# Altium integrated library ON Semi Darlington Transistors.IntLib: 300 symbols (part 1 of 7)
Pins are listed as number, name and electrical type; pins without a type are passive.

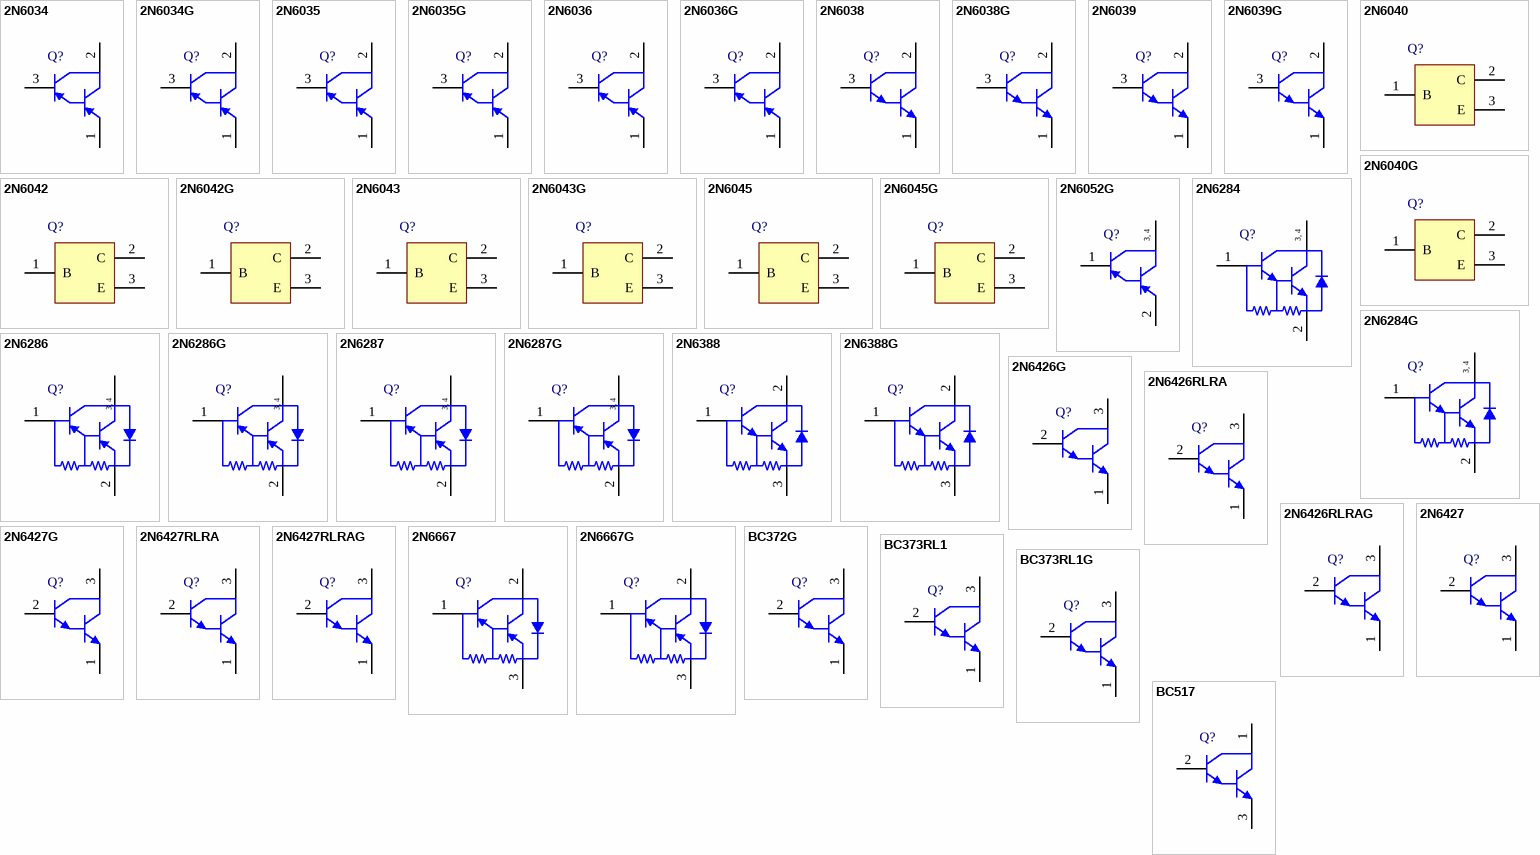
[diagram p0: symbols 2N6034 to BC517]

## 2N6034
designator Q?
Plastic Darlington Complementary Silicon Power Transistor, 3-Pin TO-225, Bulk Box; Manufacturer: On Semiconductor; PartNumber: 2N6034; hFE Max (k): 15; IC Continuous (A): 4; Polarity: PNP; DatasheetVersion: Rev. 15; PackageVersion: Rev. AC, 12/2013; PackageReference: TO-225-3-77-09; PackageDescription: 3-Pin Flange Mount, Vertical Straight Lead, Body 7.6 x 2.7 mm, Pitch 2.29 mm; Supplier 1: Digi-Key; Supplier Part Number 1: 2N6034OS-ND; Packing: Bulk Box; RoHS: FALSE; Mounting Technology: Through Hole; ComponentLink1Description: Manufacturer URL; ComponentLink1URL: http://www.onsemi.com/; ComponentLink2Description: Datasheet; ComponentLink2URL: http://www.onsemi.com/pub_link/Collateral/2N6035-D.PDF; ComponentLink3Description: Package Specification; ComponentLink3URL: http://www.onsemi.com/pub_link/Collateral/77-09.PDF
footprint ONSC-TO-225-3-77-09 (FM, 3-Leads, Body 7.8x3mm, Pitch 2.29mm)
pins: 1 E, 2 C, 3 B

## 2N6034G
designator Q?
Plastic Darlington Complementary Silicon Power Transistor, 3-Pin TO-225, Pb-Free, Bulk Box; Manufacturer: On Semiconductor; PartNumber: 2N6034G; hFE Max (k): 15; IC Continuous (A): 4; Polarity: PNP; DatasheetVersion: Rev. 15; PackageVersion: Rev. AC, 12/2013; PackageReference: TO-225-3-77-09; PackageDescription: 3-Pin Flange Mount, Vertical Straight Lead, Body 7.6 x 2.7 mm, Pitch 2.29 mm; Supplier 1: Digi-Key; Supplier Part Number 1: 2N6034GOS-ND; Supplier 2: Farnell; Supplier Part Number 2: 1143544; Supplier 3: Newark; Supplier Part Number 3: 42K3159; Supplier 4: Mouser; Supplier Part Number 4: 863-2N6034G; Packing: Bulk Box; RoHS: TRUE; Mounting Technology: Through Hole; ComponentLink1Description: Manufacturer URL; ComponentLink1URL: http://www.onsemi.com/; ComponentLink2Description: Datasheet; ComponentLink2URL: http://www.onsemi.com/pub_link/Collateral/2N6035-D.PDF; ComponentLink3Description: Package Specification; ComponentLink3URL: http://www.onsemi.com/pub_link/Collateral/77-09.PDF
footprint ONSC-TO-225-3-77-09 (FM, 3-Leads, Body 7.8x3mm, Pitch 2.29mm)
pins: 1 E, 2 C, 3 B

## 2N6035
designator Q?
Plastic Darlington Complementary Silicon Power Transistor, 3-Pin TO-225, Bulk Box; Manufacturer: On Semiconductor; PartNumber: 2N6035; Note: 0; hFE Max (k): 15; IC Continuous (A): 4; Polarity: PNP; DatasheetVersion: Rev. 15; PackageVersion: Rev. AC, 12/2013; PackageReference: TO-225-3-77-09; PackageDescription: 3-Pin Flange Mount, Vertical Straight Lead, Body 7.6 x 2.7 mm, Pitch 2.29 mm; Packing: Bulk Box; RoHS: FALSE; Mounting Technology: Through Hole; ComponentLink1Description: Manufacturer URL; ComponentLink1URL: http://www.onsemi.com/; ComponentLink2Description: Datasheet; ComponentLink2URL: http://www.onsemi.com/pub_link/Collateral/2N6035-D.PDF; ComponentLink3Description: Package Specification; ComponentLink3URL: http://www.onsemi.com/pub_link/Collateral/77-09.PDF
footprint ONSC-TO-225-3-77-09 (FM, 3-Leads, Body 7.8x3mm, Pitch 2.29mm)
pins: 1 E, 2 C, 3 B

## 2N6035G
designator Q?
Plastic Darlington Complementary Silicon Power Transistor, 3-Pin TO-225, Pb-Free, Bulk Box; Manufacturer: On Semiconductor; PartNumber: 2N6035G; hFE Max (k): 15; IC Continuous (A): 4; Polarity: PNP; DatasheetVersion: Rev. 15; PackageVersion: Rev. AC, 12/2013; PackageReference: TO-225-3-77-09; PackageDescription: 3-Pin Flange Mount, Vertical Straight Lead, Body 7.6 x 2.7 mm, Pitch 2.29 mm; Supplier 1: Digi-Key; Supplier Part Number 1: 2N6035G-ND; Supplier 2: Newark; Supplier Part Number 2: 42K3160; Supplier 3: Mouser; Supplier Part Number 3: 863-2N6035G; Packing: Bulk Box; RoHS: TRUE; Mounting Technology: Through Hole; ComponentLink1Description: Manufacturer URL; ComponentLink1URL: http://www.onsemi.com/; ComponentLink2Description: Datasheet; ComponentLink2URL: http://www.onsemi.com/pub_link/Collateral/2N6035-D.PDF; ComponentLink3Description: Package Specification; ComponentLink3URL: http://www.onsemi.com/pub_link/Collateral/77-09.PDF
footprint ONSC-TO-225-3-77-09 (FM, 3-Leads, Body 7.8x3mm, Pitch 2.29mm)
pins: 1 E, 2 C, 3 B

## 2N6036
designator Q?
Plastic Darlington Complementary Silicon Power Transistor, 3-Pin TO-225, Bulk Box; Manufacturer: On Semiconductor; PartNumber: 2N6036; hFE Max (k): 15; IC Continuous (A): 4; Polarity: PNP; DatasheetVersion: Rev. 15; PackageVersion: Rev. AC, 12/2013; PackageReference: TO-225-3-77-09; PackageDescription: 3-Pin Flange Mount, Vertical Straight Lead, Body 7.6 x 2.7 mm, Pitch 2.29 mm; Supplier 1: Digi-Key; Supplier Part Number 1: 2N6036OS-ND; Packing: Bulk Box; RoHS: FALSE; Mounting Technology: Through Hole; ComponentLink1Description: Manufacturer URL; ComponentLink1URL: http://www.onsemi.com/; ComponentLink2Description: Datasheet; ComponentLink2URL: http://www.onsemi.com/pub_link/Collateral/2N6035-D.PDF; ComponentLink3Description: Package Specification; ComponentLink3URL: http://www.onsemi.com/pub_link/Collateral/77-09.PDF
footprint ONSC-TO-225-3-77-09 (FM, 3-Leads, Body 7.8x3mm, Pitch 2.29mm)
pins: 1 E, 2 C, 3 B

## 2N6036G
designator Q?
Plastic Darlington Complementary Silicon Power Transistor, 3-Pin TO-225, Pb-Free, Bulk Box; Manufacturer: On Semiconductor; PartNumber: 2N6036G; hFE Max (k): 15; IC Continuous (A): 4; Polarity: PNP; DatasheetVersion: Rev. 15; PackageVersion: Rev. AC, 12/2013; PackageReference: TO-225-3-77-09; PackageDescription: 3-Pin Flange Mount, Vertical Straight Lead, Body 7.6 x 2.7 mm, Pitch 2.29 mm; Supplier 1: Digi-Key; Supplier Part Number 1: 2N6036GOS-ND; Supplier 2: Newark; Supplier Part Number 2: 42K3161; Supplier 3: Mouser; Supplier Part Number 3: 863-2N6036G; Packing: Bulk Box; RoHS: TRUE; Mounting Technology: Through Hole; ComponentLink1Description: Manufacturer URL; ComponentLink1URL: http://www.onsemi.com/; ComponentLink2Description: Datasheet; ComponentLink2URL: http://www.onsemi.com/pub_link/Collateral/2N6035-D.PDF; ComponentLink3Description: Package Specification; ComponentLink3URL: http://www.onsemi.com/pub_link/Collateral/77-09.PDF
footprint ONSC-TO-225-3-77-09 (FM, 3-Leads, Body 7.8x3mm, Pitch 2.29mm)
pins: 1 E, 2 C, 3 B

## 2N6038
designator Q?
Plastic Darlington Complementary Silicon Power Transistor, 3-Pin TO-225, Bulk Box; Manufacturer: On Semiconductor; PartNumber: 2N6038; hFE Max (k): 15; IC Continuous (A): 4; Polarity: NPN; DatasheetVersion: Rev. 15; PackageVersion: Rev. AC, 12/2013; PackageReference: TO-225-3-77-09; PackageDescription: 3-Pin Flange Mount, Vertical Straight Lead, Body 7.6 x 2.7 mm, Pitch 2.29 mm; Supplier 1: Digi-Key; Supplier Part Number 1: 2N6038OS-ND; Packing: Bulk Box; RoHS: FALSE; Mounting Technology: Through Hole; ComponentLink1Description: Manufacturer URL; ComponentLink1URL: http://www.onsemi.com/; ComponentLink2Description: Datasheet; ComponentLink2URL: http://www.onsemi.com/pub_link/Collateral/2N6035-D.PDF; ComponentLink3Description: Package Specification; ComponentLink3URL: http://www.onsemi.com/pub_link/Collateral/77-09.PDF
footprint ONSC-TO-225-3-77-09 (FM, 3-Leads, Body 7.8x3mm, Pitch 2.29mm)
pins: 1 E, 2 C, 3 B

## 2N6038G
designator Q?
Plastic Darlington Complementary Silicon Power Transistor, 3-Pin TO-225, Pb-Free, Bulk Box; Manufacturer: On Semiconductor; PartNumber: 2N6038G; hFE Max (k): 15; IC Continuous (A): 4; Polarity: NPN; DatasheetVersion: Rev. 15; PackageVersion: Rev. AC, 12/2013; PackageReference: TO-225-3-77-09; PackageDescription: 3-Pin Flange Mount, Vertical Straight Lead, Body 7.6 x 2.7 mm, Pitch 2.29 mm; Supplier 1: Digi-Key; Supplier Part Number 1: 2N6038GOS-ND; Supplier 2: Newark; Supplier Part Number 2: 42K3162; Supplier 3: Mouser; Supplier Part Number 3: 863-2N6038G; Packing: Bulk Box; RoHS: TRUE; Mounting Technology: Through Hole; ComponentLink1Description: Manufacturer URL; ComponentLink1URL: http://www.onsemi.com/; ComponentLink2Description: Datasheet; ComponentLink2URL: http://www.onsemi.com/pub_link/Collateral/2N6035-D.PDF; ComponentLink3Description: Package Specification; ComponentLink3URL: http://www.onsemi.com/pub_link/Collateral/77-09.PDF
footprint ONSC-TO-225-3-77-09 (FM, 3-Leads, Body 7.8x3mm, Pitch 2.29mm)
pins: 1 E, 2 C, 3 B

## 2N6039
designator Q?
Plastic Darlington Complementary Silicon Power Transistor, 3-Pin TO-225, Bulk Box; Manufacturer: On Semiconductor; PartNumber: 2N6039; Note: 0; hFE Max (k): 15; IC Continuous (A): 4; Polarity: NPN; DatasheetVersion: Rev. 15; PackageVersion: Rev. AC, 12/2013; PackageReference: TO-225-3-77-09; PackageDescription: 3-Pin Flange Mount, Vertical Straight Lead, Body 7.6 x 2.7 mm, Pitch 2.29 mm; Packing: Bulk Box; RoHS: FALSE; Mounting Technology: Through Hole; ComponentLink1Description: Manufacturer URL; ComponentLink1URL: http://www.onsemi.com/; ComponentLink2Description: Datasheet; ComponentLink2URL: http://www.onsemi.com/pub_link/Collateral/2N6035-D.PDF; ComponentLink3Description: Package Specification; ComponentLink3URL: http://www.onsemi.com/pub_link/Collateral/77-09.PDF
footprint ONSC-TO-225-3-77-09 (FM, 3-Leads, Body 7.8x3mm, Pitch 2.29mm)
pins: 1 E, 2 C, 3 B

## 2N6039G
designator Q?
Plastic Darlington Complementary Silicon Power Transistor, 3-Pin TO-225, Pb-Free, Bulk Box; Manufacturer: On Semiconductor; PartNumber: 2N6039G; hFE Max (k): 15; IC Continuous (A): 4; Polarity: NPN; DatasheetVersion: Rev. 15; PackageVersion: Rev. AC, 12/2013; PackageReference: TO-225-3-77-09; PackageDescription: 3-Pin Flange Mount, Vertical Straight Lead, Body 7.6 x 2.7 mm, Pitch 2.29 mm; Supplier 1: Digi-Key; Supplier Part Number 1: 2N6039GOS-ND; Supplier 2: Farnell; Supplier Part Number 2: 1095311; Supplier 3: Newark; Supplier Part Number 3: 42K3163; Supplier 4: Mouser; Supplier Part Number 4: 863-2N6039G; Packing: Bulk Box; RoHS: TRUE; Mounting Technology: Through Hole; ComponentLink1Description: Manufacturer URL; ComponentLink1URL: http://www.onsemi.com/; ComponentLink2Description: Datasheet; ComponentLink2URL: http://www.onsemi.com/pub_link/Collateral/2N6035-D.PDF; ComponentLink3Description: Package Specification; ComponentLink3URL: http://www.onsemi.com/pub_link/Collateral/77-09.PDF
footprint ONSC-TO-225-3-77-09 (FM, 3-Leads, Body 7.8x3mm, Pitch 2.29mm)
pins: 1 E, 2 C, 3 B

## 2N6040
designator Q?
Plastic Medium-Power Complementary Silicon Transistor, 3-Pin TO-220, Tube; Manufacturer: On Semiconductor; PartNumber: 2N6040; hFE Max (k): 20; IC Continuous (A): 8; Polarity: PNP; DatasheetVersion: Rev. 9; PackageVersion: Rev. AG, 09/2011; PackageReference: TO-220-3-221A-09; PackageDescription: 3-Pin Flange Mount, Vertical Straight Lead, Body 9.97 x 4.445 mm, Pitch 2.54 mm; Supplier 1: Digi-Key; Supplier Part Number 1: 2N6040OS-ND; Packing: Tube; RoHS: FALSE; Mounting Technology: Through Hole; ComponentLink1Description: Manufacturer URL; ComponentLink1URL: http://www.onsemi.com/; ComponentLink2Description: Datasheet; ComponentLink2URL: http://www.onsemi.com/pub_link/Collateral/2N6040-D.PDF; ComponentLink3Description: Package Specification; ComponentLink3URL: http://www.onsemi.com/pub_link/Collateral/221A-09.PDF
footprint ONSC-TO-220-3-221A-09 (FM, 3-Leads, Body 10.3x4.85mm, Pitch 2.54mm)
pins: 1 B, 2 C, 3 E

## 2N6040G
designator Q?
Plastic Medium-Power Complementary Silicon Transistor, 3-Pin TO-220, Pb-Free, Tube; Manufacturer: On Semiconductor; PartNumber: 2N6040G; hFE Max (k): 20; IC Continuous (A): 8; Polarity: PNP; DatasheetVersion: Rev. 9; PackageVersion: Rev. AG, 09/2011; PackageReference: TO-220-3-221A-09; PackageDescription: 3-Pin Flange Mount, Vertical Straight Lead, Body 9.97 x 4.445 mm, Pitch 2.54 mm; Supplier 1: Digi-Key; Supplier Part Number 1: 2N6040GOS-ND; Supplier 2: Farnell; Supplier Part Number 2: 1126360; Supplier 3: Newark; Supplier Part Number 3: 42K3164; Supplier 4: Mouser; Supplier Part Number 4: 863-2N6040G; Packing: Tube; RoHS: TRUE; Mounting Technology: Through Hole; ComponentLink1Description: Manufacturer URL; ComponentLink1URL: http://www.onsemi.com/; ComponentLink2Description: Datasheet; ComponentLink2URL: http://www.onsemi.com/pub_link/Collateral/2N6040-D.PDF; ComponentLink3Description: Package Specification; ComponentLink3URL: http://www.onsemi.com/pub_link/Collateral/221A-09.PDF
footprint ONSC-TO-220-3-221A-09 (FM, 3-Leads, Body 10.3x4.85mm, Pitch 2.54mm)
pins: 1 B, 2 C, 3 E

## 2N6042
designator Q?
Plastic Medium-Power Complementary Silicon Transistor, 3-Pin TO-220, Tube; Manufacturer: On Semiconductor; PartNumber: 2N6042; hFE Max (k): 20; IC Continuous (A): 8; Polarity: PNP; DatasheetVersion: Rev. 9; PackageVersion: Rev. AG, 09/2011; PackageReference: TO-220-3-221A-09; PackageDescription: 3-Pin Flange Mount, Vertical Straight Lead, Body 9.97 x 4.445 mm, Pitch 2.54 mm; Supplier 1: Digi-Key; Supplier Part Number 1: 2N6042OS-ND; Packing: Tube; RoHS: FALSE; Mounting Technology: Through Hole; ComponentLink1Description: Manufacturer URL; ComponentLink1URL: http://www.onsemi.com/; ComponentLink2Description: Datasheet; ComponentLink2URL: http://www.onsemi.com/pub_link/Collateral/2N6040-D.PDF; ComponentLink3Description: Package Specification; ComponentLink3URL: http://www.onsemi.com/pub_link/Collateral/221A-09.PDF
footprint ONSC-TO-220-3-221A-09 (FM, 3-Leads, Body 10.3x4.85mm, Pitch 2.54mm)
pins: 1 B, 2 C, 3 E

## 2N6042G
designator Q?
Plastic Medium-Power Complementary Silicon Transistor, 3-Pin TO-220, Pb-Free, Tube; Manufacturer: On Semiconductor; PartNumber: 2N6042G; hFE Max (k): 20; IC Continuous (A): 8; Polarity: PNP; DatasheetVersion: Rev. 9; PackageVersion: Rev. AG, 09/2011; PackageReference: TO-220-3-221A-09; PackageDescription: 3-Pin Flange Mount, Vertical Straight Lead, Body 9.97 x 4.445 mm, Pitch 2.54 mm; Supplier 1: Digi-Key; Supplier Part Number 1: 2N6042GOS-ND; Supplier 2: Farnell; Supplier Part Number 2: 1231734; Supplier 3: Newark; Supplier Part Number 3: 42K3165; Supplier 4: Mouser; Supplier Part Number 4: 863-2N6042G; Packing: Tube; RoHS: TRUE; Mounting Technology: Through Hole; ComponentLink1Description: Manufacturer URL; ComponentLink1URL: http://www.onsemi.com/; ComponentLink2Description: Datasheet; ComponentLink2URL: http://www.onsemi.com/pub_link/Collateral/2N6040-D.PDF; ComponentLink3Description: Package Specification; ComponentLink3URL: http://www.onsemi.com/pub_link/Collateral/221A-09.PDF
footprint ONSC-TO-220-3-221A-09 (FM, 3-Leads, Body 10.3x4.85mm, Pitch 2.54mm)
pins: 1 B, 2 C, 3 E

## 2N6043
designator Q?
Plastic Medium-Power Complementary Silicon Transistor, 3-Pin TO-220, Tube; Manufacturer: On Semiconductor; PartNumber: 2N6043; hFE Max (k): 20; IC Continuous (A): 8; Polarity: NPN; DatasheetVersion: Rev. 9; PackageVersion: Rev. AG, 09/2011; PackageReference: TO-220-3-221A-09; PackageDescription: 3-Pin Flange Mount, Vertical Straight Lead, Body 9.97 x 4.445 mm, Pitch 2.54 mm; Supplier 1: Digi-Key; Supplier Part Number 1: 2N6043OS-ND; Packing: Tube; RoHS: FALSE; Mounting Technology: Through Hole; ComponentLink1Description: Manufacturer URL; ComponentLink1URL: http://www.onsemi.com/; ComponentLink2Description: Datasheet; ComponentLink2URL: http://www.onsemi.com/pub_link/Collateral/2N6040-D.PDF; ComponentLink3Description: Package Specification; ComponentLink3URL: http://www.onsemi.com/pub_link/Collateral/221A-09.PDF
footprint ONSC-TO-220-3-221A-09 (FM, 3-Leads, Body 10.3x4.85mm, Pitch 2.54mm)
pins: 1 B, 2 C, 3 E

## 2N6043G
designator Q?
Plastic Medium-Power Complementary Silicon Transistor, 3-Pin TO-220, Pb-Free, Tube; Manufacturer: On Semiconductor; PartNumber: 2N6043G; hFE Max (k): 20; IC Continuous (A): 8; Polarity: NPN; DatasheetVersion: Rev. 9; PackageVersion: Rev. AG, 09/2011; PackageReference: TO-220-3-221A-09; PackageDescription: 3-Pin Flange Mount, Vertical Straight Lead, Body 9.97 x 4.445 mm, Pitch 2.54 mm; Supplier 1: Digi-Key; Supplier Part Number 1: 2N6043GOS-ND; Supplier 2: Farnell; Supplier Part Number 2: 1126361; Supplier 3: Newark; Supplier Part Number 3: 42K3166; Supplier 4: Mouser; Supplier Part Number 4: 863-2N6043G; Packing: Tube; RoHS: TRUE; Mounting Technology: Through Hole; ComponentLink1Description: Manufacturer URL; ComponentLink1URL: http://www.onsemi.com/; ComponentLink2Description: Datasheet; ComponentLink2URL: http://www.onsemi.com/pub_link/Collateral/2N6040-D.PDF; ComponentLink3Description: Package Specification; ComponentLink3URL: http://www.onsemi.com/pub_link/Collateral/221A-09.PDF
footprint ONSC-TO-220-3-221A-09 (FM, 3-Leads, Body 10.3x4.85mm, Pitch 2.54mm)
pins: 1 B, 2 C, 3 E

## 2N6045
designator Q?
Plastic Medium-Power Complementary Silicon Transistor, 3-Pin TO-220, Tube; Manufacturer: On Semiconductor; PartNumber: 2N6045; hFE Max (k): 20; IC Continuous (A): 8; Polarity: NPN; DatasheetVersion: Rev. 9; PackageVersion: Rev. AG, 09/2011; PackageReference: TO-220-3-221A-09; PackageDescription: 3-Pin Flange Mount, Vertical Straight Lead, Body 9.97 x 4.445 mm, Pitch 2.54 mm; Supplier 1: Digi-Key; Supplier Part Number 1: 2N6045OS-ND; Packing: Tube; RoHS: FALSE; Mounting Technology: Through Hole; ComponentLink1Description: Manufacturer URL; ComponentLink1URL: http://www.onsemi.com/; ComponentLink2Description: Datasheet; ComponentLink2URL: http://www.onsemi.com/pub_link/Collateral/2N6040-D.PDF; ComponentLink3Description: Package Specification; ComponentLink3URL: http://www.onsemi.com/pub_link/Collateral/221A-09.PDF
footprint ONSC-TO-220-3-221A-09 (FM, 3-Leads, Body 10.3x4.85mm, Pitch 2.54mm)
pins: 1 B, 2 C, 3 E

## 2N6045G
designator Q?
Plastic Medium-Power Complementary Silicon Transistor, 3-Pin TO-220, Pb-Free, Tube; Manufacturer: On Semiconductor; PartNumber: 2N6045G; hFE Max (k): 20; IC Continuous (A): 8; Polarity: NPN; DatasheetVersion: Rev. 9; PackageVersion: Rev. AG, 09/2011; PackageReference: TO-220-3-221A-09; PackageDescription: 3-Pin Flange Mount, Vertical Straight Lead, Body 9.97 x 4.445 mm, Pitch 2.54 mm; Supplier 1: Digi-Key; Supplier Part Number 1: 2N6045GOS-ND; Supplier 2: Farnell; Supplier Part Number 2: 1126034; Supplier 3: Newark; Supplier Part Number 3: 26K5308; Supplier 4: Mouser; Supplier Part Number 4: 863-2N6045G; Packing: Tube; RoHS: TRUE; Mounting Technology: Through Hole; ComponentLink1Description: Manufacturer URL; ComponentLink1URL: http://www.onsemi.com/; ComponentLink2Description: Datasheet; ComponentLink2URL: http://www.onsemi.com/pub_link/Collateral/2N6040-D.PDF; ComponentLink3Description: Package Specification; ComponentLink3URL: http://www.onsemi.com/pub_link/Collateral/221A-09.PDF
footprint ONSC-TO-220-3-221A-09 (FM, 3-Leads, Body 10.3x4.85mm, Pitch 2.54mm)
pins: 1 B, 2 C, 3 E

## 2N6052G
designator Q?
Darlington Complementary Silicon Power Transistor, 3-Pin TO-204, Pb-Free, Tray; Manufacturer: On Semiconductor; PartNumber: 2N6052G; hFE Max (k): 18; IC Continuous (A): 12; Polarity: PNP; DatasheetVersion: Rev. 5; PackageVersion: Rev. Z, 05/1988; PackageReference: TO-204-3-1-07; PackageDescription: 2-Pin Transistor Outline, Body 39.37 x 26.67 mm, Pitch 10.92 mm; Supplier 1: Digi-Key; Supplier Part Number 1: 2N6052GOS-ND; Supplier 2: Farnell; Supplier Part Number 2: 1126035; Supplier 3: Newark; Supplier Part Number 3: 26K5309; Supplier 4: Mouser; Supplier Part Number 4: 863-2N6052G; Packing: Tray; RoHS: TRUE; Mounting Technology: Through Hole; ComponentLink1Description: Manufacturer URL; ComponentLink1URL: http://www.onsemi.com/; ComponentLink2Description: Datasheet; ComponentLink2URL: http://www.onsemi.com/pub_link/Collateral/2N6052-D.PDF; ComponentLink3Description: Package Specification; ComponentLink3URL: http://www.onsemi.com/pub_link/Collateral/1-07.PDF
footprint ONSC-TO-204-3-1-07 (TO-204, Pin Spacing 10.92mm, Lead Dia. 1.09 mm (max))
pins: 1 B, 2 E, 3 C, 4 C
text: 3, 4

## 2N6284
designator Q?
Darlington Complementary Silicon Power Transistor, 3-Pin TO-204, Tray; Manufacturer: On Semiconductor; PartNumber: 2N6284; Note: 0; hFE Max (k): 18; IC Continuous (A): 20; Polarity: NPN; DatasheetVersion: Rev. 4; PackageVersion: Rev. Z, 05/1988; PackageReference: TO-204-3-1-07; PackageDescription: 2-Pin Transistor Outline, Body 39.37 x 26.67 mm, Pitch 10.92 mm; Packing: Tray; RoHS: FALSE; Mounting Technology: Through Hole; ComponentLink1Description: Manufacturer URL; ComponentLink1URL: http://www.onsemi.com/; ComponentLink2Description: Datasheet; ComponentLink2URL: http://www.onsemi.cn/pub_link/Collateral/2N6284-D.PDF; ComponentLink3Description: Package Specification; ComponentLink3URL: http://www.onsemi.com/pub_link/Collateral/1-07.PDF
footprint ONSC-TO-204-3-1-07 (TO-204, Pin Spacing 10.92mm, Lead Dia. 1.09 mm (max))
pins: 1 B, 2 E, 3 C, 4 C
text: 3, 4

## 2N6284G
designator Q?
Darlington Complementary Silicon Power Transistor, 3-Pin TO-204, Pb-Free, Tray; Manufacturer: On Semiconductor; PartNumber: 2N6284G; hFE Max (k): 18; IC Continuous (A): 20; Polarity: NPN; DatasheetVersion: Rev. 4; PackageVersion: Rev. Z, 05/1988; PackageReference: TO-204-3-1-07; PackageDescription: 2-Pin Transistor Outline, Body 39.37 x 26.67 mm, Pitch 10.92 mm; Supplier 1: Digi-Key; Supplier Part Number 1: 2N6284GOS-ND; Supplier 2: Farnell; Supplier Part Number 2: 1126041; Supplier 3: Newark; Supplier Part Number 3: 26K5315; Supplier 4: Mouser; Supplier Part Number 4: 863-2N6284G; Packing: Tray; RoHS: TRUE; Mounting Technology: Through Hole; ComponentLink1Description: Manufacturer URL; ComponentLink1URL: http://www.onsemi.com/; ComponentLink2Description: Datasheet; ComponentLink2URL: http://www.onsemi.cn/pub_link/Collateral/2N6284-D.PDF; ComponentLink3Description: Package Specification; ComponentLink3URL: http://www.onsemi.com/pub_link/Collateral/1-07.PDF
footprint ONSC-TO-204-3-1-07 (TO-204, Pin Spacing 10.92mm, Lead Dia. 1.09 mm (max))
pins: 1 B, 2 E, 3 C, 4 C
text: 3, 4

## 2N6286
designator Q?
Darlington Complementary Silicon Power Transistor, 3-Pin TO-204, Tray; Manufacturer: On Semiconductor; PartNumber: 2N6286; Note: 0; hFE Max (k): 18; IC Continuous (A): 20; Polarity: PNP; DatasheetVersion: Rev. 4; PackageVersion: Rev. Z, 05/1988; PackageReference: TO-204-3-1-07; PackageDescription: 2-Pin Transistor Outline, Body 39.37 x 26.67 mm, Pitch 10.92 mm; Packing: Tray; RoHS: FALSE; Mounting Technology: Through Hole; ComponentLink1Description: Manufacturer URL; ComponentLink1URL: http://www.onsemi.com/; ComponentLink2Description: Datasheet; ComponentLink2URL: http://www.onsemi.cn/pub_link/Collateral/2N6284-D.PDF; ComponentLink3Description: Package Specification; ComponentLink3URL: http://www.onsemi.com/pub_link/Collateral/1-07.PDF
footprint ONSC-TO-204-3-1-07 (TO-204, Pin Spacing 10.92mm, Lead Dia. 1.09 mm (max))
pins: 1 B, 2 E, 3 C, 4 C
text: 3, 4

## 2N6286G
designator Q?
Darlington Complementary Silicon Power Transistor, 3-Pin TO-204, Pb-Free, Tray; Manufacturer: On Semiconductor; PartNumber: 2N6286G; hFE Max (k): 18; IC Continuous (A): 20; Polarity: PNP; DatasheetVersion: Rev. 4; PackageVersion: Rev. Z, 05/1988; PackageReference: TO-204-3-1-07; PackageDescription: 2-Pin Transistor Outline, Body 39.37 x 26.67 mm, Pitch 10.92 mm; Supplier 1: Digi-Key; Supplier Part Number 1: 2N6286GOS-ND; Supplier 2: Farnell; Supplier Part Number 2: 1126364; Supplier 3: Newark; Supplier Part Number 3: 42K3170; Supplier 4: Mouser; Supplier Part Number 4: 863-2N6286G; Packing: Tray; RoHS: TRUE; Mounting Technology: Through Hole; ComponentLink1Description: Manufacturer URL; ComponentLink1URL: http://www.onsemi.com/; ComponentLink2Description: Datasheet; ComponentLink2URL: http://www.onsemi.cn/pub_link/Collateral/2N6284-D.PDF; ComponentLink3Description: Package Specification; ComponentLink3URL: http://www.onsemi.com/pub_link/Collateral/1-07.PDF
footprint ONSC-TO-204-3-1-07 (TO-204, Pin Spacing 10.92mm, Lead Dia. 1.09 mm (max))
pins: 1 B, 2 E, 3 C, 4 C
text: 3, 4

## 2N6287
designator Q?
Darlington Complementary Silicon Power Transistor, 3-Pin TO-204, Tray; Manufacturer: On Semiconductor; PartNumber: 2N6287; Note: 0; hFE Max (k): 18; IC Continuous (A): 20; Polarity: PNP; DatasheetVersion: Rev. 4; PackageVersion: Rev. Z, 05/1988; PackageReference: TO-204-3-1-07; PackageDescription: 2-Pin Transistor Outline, Body 39.37 x 26.67 mm, Pitch 10.92 mm; Packing: Tray; RoHS: FALSE; Mounting Technology: Through Hole; ComponentLink1Description: Manufacturer URL; ComponentLink1URL: http://www.onsemi.com/; ComponentLink2Description: Datasheet; ComponentLink2URL: http://www.onsemi.cn/pub_link/Collateral/2N6284-D.PDF; ComponentLink3Description: Package Specification; ComponentLink3URL: http://www.onsemi.com/pub_link/Collateral/1-07.PDF
footprint ONSC-TO-204-3-1-07 (TO-204, Pin Spacing 10.92mm, Lead Dia. 1.09 mm (max))
pins: 1 B, 2 E, 3 C, 4 C
text: 3, 4

## 2N6287G
designator Q?
Darlington Complementary Silicon Power Transistor, 3-Pin TO-204, Pb-Free, Tray; Manufacturer: On Semiconductor; PartNumber: 2N6287G; hFE Max (k): 18; IC Continuous (A): 20; Polarity: PNP; DatasheetVersion: Rev. 4; PackageVersion: Rev. Z, 05/1988; PackageReference: TO-204-3-1-07; PackageDescription: 2-Pin Transistor Outline, Body 39.37 x 26.67 mm, Pitch 10.92 mm; Supplier 1: Digi-Key; Supplier Part Number 1: 2N6287GOS-ND; Supplier 2: Farnell; Supplier Part Number 2: 1126042; Supplier 3: Newark; Supplier Part Number 3: 26K5316; Supplier 4: Mouser; Supplier Part Number 4: 863-2N6287G; Packing: Tray; RoHS: TRUE; Mounting Technology: Through Hole; ComponentLink1Description: Manufacturer URL; ComponentLink1URL: http://www.onsemi.com/; ComponentLink2Description: Datasheet; ComponentLink2URL: http://www.onsemi.cn/pub_link/Collateral/2N6284-D.PDF; ComponentLink3Description: Package Specification; ComponentLink3URL: http://www.onsemi.com/pub_link/Collateral/1-07.PDF
footprint ONSC-TO-204-3-1-07 (TO-204, Pin Spacing 10.92mm, Lead Dia. 1.09 mm (max))
pins: 1 B, 2 E, 3 C, 4 C
text: 3, 4

## 2N6388
designator Q?
Plastic Medium-Power Silicon Transistor, 3-Pin TO-220, Tube; Manufacturer: On Semiconductor; PartNumber: 2N6388; hFE Max (k): 20; IC Continuous (A): 10; Polarity: NPN; DatasheetVersion: Rev. 14; PackageVersion: Rev. AG, 09/2011; PackageReference: TO-220-3-221A-09; PackageDescription: 3-Pin Flange Mount, Vertical Straight Lead, Body 9.97 x 4.445 mm, Pitch 2.54 mm; Supplier 1: Digi-Key; Supplier Part Number 1: 2N6388OS-ND; Packing: Tube; RoHS: FALSE; Mounting Technology: Through Hole; ComponentLink1Description: Manufacturer URL; ComponentLink1URL: http://www.onsemi.com/; ComponentLink2Description: Datasheet; ComponentLink2URL: http://www.onsemi.cn/pub_link/Collateral/2N6387-D.PDF; ComponentLink3Description: Package Specification; ComponentLink3URL: http://www.onsemi.com/pub_link/Collateral/221A-09.PDF
footprint ONSC-TO-220-3-221A-09 (FM, 3-Leads, Body 10.3x4.85mm, Pitch 2.54mm)
pins: 1 B, 2 C, 3 E

## 2N6388G
designator Q?
Plastic Medium-Power Silicon Transistor, 3-Pin TO-220, Pb-Free, Tube; Manufacturer: On Semiconductor; PartNumber: 2N6388G; hFE Max (k): 20; IC Continuous (A): 10; Polarity: NPN; DatasheetVersion: Rev. 14; PackageVersion: Rev. AG, 09/2011; PackageReference: TO-220-3-221A-09; PackageDescription: 3-Pin Flange Mount, Vertical Straight Lead, Body 9.97 x 4.445 mm, Pitch 2.54 mm; Supplier 1: Digi-Key; Supplier Part Number 1: 2N6388GOS-ND; Supplier 2: Farnell; Supplier Part Number 2: 1126366; Supplier 3: Newark; Supplier Part Number 3: 42K3177; Supplier 4: Mouser; Supplier Part Number 4: 863-2N6388G; Packing: Tube; RoHS: TRUE; Mounting Technology: Through Hole; ComponentLink1Description: Manufacturer URL; ComponentLink1URL: http://www.onsemi.com/; ComponentLink2Description: Datasheet; ComponentLink2URL: http://www.onsemi.cn/pub_link/Collateral/2N6387-D.PDF; ComponentLink3Description: Package Specification; ComponentLink3URL: http://www.onsemi.com/pub_link/Collateral/221A-09.PDF
footprint ONSC-TO-220-3-221A-09 (FM, 3-Leads, Body 10.3x4.85mm, Pitch 2.54mm)
pins: 1 B, 2 C, 3 E

## 2N6426G
designator Q?
Darlington Transistor, NPN Silicon, 3-Pin TO-92, Pb-Free, Bulk Box; Manufacturer: On Semiconductor; PartNumber: 2N6426G; IC Continuous (A): 0.5; DatasheetVersion: Rev. 3; PackageVersion: Rev. AM; PackageReference: TO-92-3-29-11_AM_SL; PackageDescription: 3-Pin Transistor Outline, Body 4.825 x 3.685 mm, Pitch 1.27 mm; Supplier 1: Digi-Key; Supplier Part Number 1: 2N6426GOS-ND; Supplier 2: Newark; Supplier Part Number 2: 45J2506; Supplier 3: Mouser; Supplier Part Number 3: 863-2N6426G; Packing: Bulk Box; Polarity: NPN; RoHS: TRUE; Mounting Technology: Through Hole; ComponentLink1Description: Manufacturer URL; ComponentLink1URL: http://www.onsemi.com/; ComponentLink2Description: Datasheet; ComponentLink2URL: http://www.onsemi.cn/pub_link/Collateral/2N6426-D.PDF; ComponentLink3Description: Package Specification; ComponentLink3URL: http://www.onsemi.cn/pub_link/Collateral/2N6426-D.PDF
footprint ONSC-TO-92-3-29-11 (TO, 3-Leads, Body Dia 4.7mm, Pitch 1.27mm)
pins: 1 E, 2 B, 3 C

## 2N6426RLRA
designator Q?
Darlington Transistor, NPN Silicon, 3-Pin TO-92, Tape and Reel; Manufacturer: On Semiconductor; PartNumber: 2N6426RLRA; IC Continuous (A): 0.5; DatasheetVersion: Rev. 3; PackageVersion: Rev. AM; PackageReference: TO-92-3-29-11_AM_BL; PackageDescription: 3-Pin Transistor Outline, Body 4.825 x 3.685 mm, Pitch 1.27 mm; Supplier 1: Digi-Key; Supplier Part Number 1: 2N6426RLRA-ND; Packing: Tape and Reel; Polarity: NPN; RoHS: FALSE; Mounting Technology: Through Hole; ComponentLink1Description: Manufacturer URL; ComponentLink1URL: http://www.onsemi.com/; ComponentLink2Description: Datasheet; ComponentLink2URL: http://www.onsemi.cn/pub_link/Collateral/2N6426-D.PDF; ComponentLink3Description: Package Specification; ComponentLink3URL: http://www.onsemi.com/pub_link/Collateral/MAC97-D.PDF
footprint ONSC-TO-92-3-29-11_AM_BL (TO, 3-Leads, Body Dia 4.7mm, Pitch 2.6mm)
pins: 1 E, 2 B, 3 C

## 2N6426RLRAG
designator Q?
Darlington Transistor, NPN Silicon, 3-Pin TO-92, Pb-Free, Ammo Box; Manufacturer: On Semiconductor; PartNumber: 2N6426RLRAG; IC Continuous (A): 0.5; DatasheetVersion: Rev. 3; PackageVersion: Rev. AM; PackageReference: TO-92-3-29-11_AM_BL; PackageDescription: 3-Pin Transistor Outline, Body 4.825 x 3.685 mm, Pitch 1.27 mm; Supplier 1: Digi-Key; Supplier Part Number 1: 2N6426RLRAG-ND; Supplier 2: Newark; Supplier Part Number 2: 26K5323; Supplier 3: Mouser; Supplier Part Number 3: 863-2N6426RLRAG; Packing: Ammo Box; Polarity: NPN; RoHS: TRUE; Mounting Technology: Through Hole; ComponentLink1Description: Manufacturer URL; ComponentLink1URL: http://www.onsemi.com/; ComponentLink2Description: Datasheet; ComponentLink2URL: http://www.onsemi.cn/pub_link/Collateral/2N6426-D.PDF; ComponentLink3Description: Package Specification; ComponentLink3URL: http://www.onsemi.com/pub_link/Collateral/MAC97-D.PDF
footprint ONSC-TO-92-3-29-11_AM_BL (TO, 3-Leads, Body Dia 4.7mm, Pitch 2.6mm)
pins: 1 E, 2 B, 3 C

## 2N6427
designator Q?
Darlington Transistor, NPN Silicon, 3-Pin TO-92, Bulk Box; Manufacturer: On Semiconductor; PartNumber: 2N6427; IC Continuous (A): 0.5; DatasheetVersion: Rev. 3; PackageVersion: Rev. AM; PackageReference: TO-92-3-29-11_AM_SL; PackageDescription: 3-Pin Transistor Outline, Body 4.825 x 3.685 mm, Pitch 1.27 mm; Supplier 1: Digi-Key; Supplier Part Number 1: 2N6427OS-ND; Packing: Bulk Box; Polarity: NPN; RoHS: FALSE; Mounting Technology: Through Hole; ComponentLink1Description: Manufacturer URL; ComponentLink1URL: http://www.onsemi.com/; ComponentLink2Description: Datasheet; ComponentLink2URL: http://www.onsemi.cn/pub_link/Collateral/2N6426-D.PDF; ComponentLink3Description: Package Specification; ComponentLink3URL: http://www.onsemi.cn/pub_link/Collateral/2N6426-D.PDF
footprint ONSC-TO-92-3-29-11 (TO, 3-Leads, Body Dia 4.7mm, Pitch 1.27mm)
pins: 1 E, 2 B, 3 C

## 2N6427G
designator Q?
Darlington Transistor, NPN Silicon, 3-Pin TO-92, Pb-Free, Bulk Box; Manufacturer: On Semiconductor; PartNumber: 2N6427G; IC Continuous (A): 0.5; DatasheetVersion: Rev. 3; PackageVersion: Rev. AM; PackageReference: TO-92-3-29-11_AM_SL; PackageDescription: 3-Pin Transistor Outline, Body 4.825 x 3.685 mm, Pitch 1.27 mm; Supplier 1: Digi-Key; Supplier Part Number 1: 2N6427GOS-ND; Supplier 2: Newark; Supplier Part Number 2: 42K3183; Supplier 3: Mouser; Supplier Part Number 3: 863-2N6427G; Packing: Bulk Box; Polarity: NPN; RoHS: TRUE; Mounting Technology: Through Hole; ComponentLink1Description: Manufacturer URL; ComponentLink1URL: http://www.onsemi.com/; ComponentLink2Description: Datasheet; ComponentLink2URL: http://www.onsemi.cn/pub_link/Collateral/2N6426-D.PDF; ComponentLink3Description: Package Specification; ComponentLink3URL: http://www.onsemi.cn/pub_link/Collateral/2N6426-D.PDF
footprint ONSC-TO-92-3-29-11 (TO, 3-Leads, Body Dia 4.7mm, Pitch 1.27mm)
pins: 1 E, 2 B, 3 C

## 2N6427RLRA
designator Q?
Darlington Transistor, NPN Silicon, 3-Pin TO-92, Tape and Reel; Manufacturer: On Semiconductor; PartNumber: 2N6427RLRA; IC Continuous (A): 0.5; DatasheetVersion: Rev. 3; PackageVersion: Rev. AM; PackageReference: TO-92-3-29-11_AM_BL; PackageDescription: 3-Pin Transistor Outline, Body 4.825 x 3.685 mm, Pitch 1.27 mm; Supplier 1: Digi-Key; Supplier Part Number 1: 2N6427RLRA-ND; Packing: Tape and Reel; Polarity: NPN; RoHS: FALSE; Mounting Technology: Through Hole; ComponentLink1Description: Manufacturer URL; ComponentLink1URL: http://www.onsemi.com/; ComponentLink2Description: Datasheet; ComponentLink2URL: http://www.onsemi.cn/pub_link/Collateral/2N6426-D.PDF; ComponentLink3Description: Package Specification; ComponentLink3URL: http://www.onsemi.com/pub_link/Collateral/MAC97-D.PDF
footprint ONSC-TO-92-3-29-11_AM_BL (TO, 3-Leads, Body Dia 4.7mm, Pitch 2.6mm)
pins: 1 E, 2 B, 3 C

## 2N6427RLRAG
designator Q?
Darlington Transistor, NPN Silicon, 3-Pin TO-92, Pb-Free, Ammo Box; Manufacturer: On Semiconductor; PartNumber: 2N6427RLRAG; IC Continuous (A): 0.5; DatasheetVersion: Rev. 3; PackageVersion: Rev. AM; PackageReference: TO-92-3-29-11_AM_BL; PackageDescription: 3-Pin Transistor Outline, Body 4.825 x 3.685 mm, Pitch 1.27 mm; Supplier 1: Digi-Key; Supplier Part Number 1: 2N6427RLRAG-ND; Supplier 2: Newark; Supplier Part Number 2: 45J2507; Supplier 3: Mouser; Supplier Part Number 3: 863-2N6427RLRAG; Packing: Ammo Box; Polarity: NPN; RoHS: TRUE; Mounting Technology: Through Hole; ComponentLink1Description: Manufacturer URL; ComponentLink1URL: http://www.onsemi.com/; ComponentLink2Description: Datasheet; ComponentLink2URL: http://www.onsemi.cn/pub_link/Collateral/2N6426-D.PDF; ComponentLink3Description: Package Specification; ComponentLink3URL: http://www.onsemi.com/pub_link/Collateral/MAC97-D.PDF
footprint ONSC-TO-92-3-29-11_AM_BL (TO, 3-Leads, Body Dia 4.7mm, Pitch 2.6mm)
pins: 1 E, 2 B, 3 C

## 2N6667
designator Q?
Darlington Silicon Power Transistor, 3-Pin TO-220, Tube; Manufacturer: On Semiconductor; PartNumber: 2N6667; hFE Max (k): 20; IC Continuous (A): 10; Polarity: PNP; DatasheetVersion: Rev. 7; PackageVersion: Rev. AG, 09/2011; PackageReference: TO-220-3-221A-09; PackageDescription: 3-Pin Flange Mount, Vertical Straight Lead, Body 9.97 x 4.445 mm, Pitch 2.54 mm; Supplier 1: Digi-Key; Supplier Part Number 1: 2N6667OS-ND; Packing: Tube; RoHS: FALSE; Mounting Technology: Through Hole; ComponentLink1Description: Manufacturer URL; ComponentLink1URL: http://www.onsemi.com/; ComponentLink2Description: Datasheet; ComponentLink2URL: http://www.onsemi.cn/pub_link/Collateral/2N6667-D.PDF; ComponentLink3Description: Package Specification; ComponentLink3URL: http://www.onsemi.com/pub_link/Collateral/221A-09.PDF
footprint ONSC-TO-220-3-221A-09 (FM, 3-Leads, Body 10.3x4.85mm, Pitch 2.54mm)
pins: 1 B, 2 C, 3 E

## 2N6667G
designator Q?
Darlington Silicon Power Transistor, 3-Pin TO-220, Pb-Free, Tube; Manufacturer: On Semiconductor; PartNumber: 2N6667G; hFE Max (k): 20; IC Continuous (A): 10; Polarity: PNP; DatasheetVersion: Rev. 7; PackageVersion: Rev. AG, 09/2011; PackageReference: TO-220-3-221A-09; PackageDescription: 3-Pin Flange Mount, Vertical Straight Lead, Body 9.97 x 4.445 mm, Pitch 2.54 mm; Supplier 1: Digi-Key; Supplier Part Number 1: 2N6667GOS-ND; Supplier 2: Farnell; Supplier Part Number 2: 1258241; Supplier 3: Newark; Supplier Part Number 3: 26K5330; Supplier 4: Mouser; Supplier Part Number 4: 863-2N6667G; Packing: Tube; RoHS: TRUE; Mounting Technology: Through Hole; ComponentLink1Description: Manufacturer URL; ComponentLink1URL: http://www.onsemi.com/; ComponentLink2Description: Datasheet; ComponentLink2URL: http://www.onsemi.cn/pub_link/Collateral/2N6667-D.PDF; ComponentLink3Description: Package Specification; ComponentLink3URL: http://www.onsemi.com/pub_link/Collateral/221A-09.PDF
footprint ONSC-TO-220-3-221A-09 (FM, 3-Leads, Body 10.3x4.85mm, Pitch 2.54mm)
pins: 1 B, 2 C, 3 E

## BC372G
designator Q?
High Voltage Darlington Transistor, NPN Silicon, 3-Pin TO-92, Pb-Free, Bulk Box; Manufacturer: On Semiconductor; PartNumber: BC372G; hFE Max (k): 160; IC Continuous (A): 1; DatasheetVersion: Rev. 4; PackageVersion: Rev. AM; PackageReference: TO-92-3-29-11_AM_SL; PackageDescription: 3-Pin Transistor Outline, Body 4.825 x 3.685 mm, Pitch 1.27 mm; Supplier 1: Digi-Key; Supplier Part Number 1: BC372G-ND; Supplier 2: Mouser; Supplier Part Number 2: 863-BC372G; Packing: Bulk Box; Polarity: NPN; RoHS: TRUE; Mounting Technology: Through Hole; ComponentLink1Description: Manufacturer URL; ComponentLink1URL: http://www.onsemi.com/; ComponentLink2Description: Datasheet; ComponentLink2URL: http://www.onsemi.cn/pub_link/Collateral/BC372-D.PDF; ComponentLink3Description: Package Specification; ComponentLink3URL: http://www.onsemi.cn/pub_link/Collateral/2N6426-D.PDF
footprint ONSC-TO-92-3-29-11 (TO, 3-Leads, Body Dia 4.7mm, Pitch 1.27mm)
pins: 1 E, 2 B, 3 C

## BC373RL1
designator Q?
High Voltage Darlington Transistor, NPN Silicon, 3-Pin TO-92, Tape and Reel; Manufacturer: On Semiconductor; PartNumber: BC373RL1; hFE Max (k): 160; IC Continuous (A): 1; DatasheetVersion: Rev. 4; PackageVersion: Rev. AM; PackageReference: TO-92-3-29-11_AM_BL; PackageDescription: 3-Pin Transistor Outline, Body 4.825 x 3.685 mm, Pitch 1.27 mm; Supplier 1: Digi-Key; Supplier Part Number 1: BC373RL1-ND; Packing: Tape and Reel; Polarity: NPN; RoHS: FALSE; Mounting Technology: Through Hole; ComponentLink1Description: Manufacturer URL; ComponentLink1URL: http://www.onsemi.com/; ComponentLink2Description: Datasheet; ComponentLink2URL: http://www.onsemi.cn/pub_link/Collateral/BC372-D.PDF; ComponentLink3Description: Package Specification; ComponentLink3URL: http://www.onsemi.com/pub_link/Collateral/MAC97-D.PDF
footprint ONSC-TO-92-3-29-11_AM_BL (TO, 3-Leads, Body Dia 4.7mm, Pitch 2.6mm)
pins: 1 E, 2 B, 3 C

## BC373RL1G
designator Q?
High Voltage Darlington Transistor, NPN Silicon, 3-Pin TO-92, Pb-Free, Tape and Reel; Manufacturer: On Semiconductor; PartNumber: BC373RL1G; hFE Max (k): 160; IC Continuous (A): 1; DatasheetVersion: Rev. 4; PackageVersion: Rev. AM; PackageReference: TO-92-3-29-11_AM_BL; PackageDescription: 3-Pin Transistor Outline, Body 4.825 x 3.685 mm, Pitch 1.27 mm; Supplier 1: Digi-Key; Supplier Part Number 1: BC373RL1GOSTR-ND; Supplier 2: Digi-Key; Supplier Part Number 2: BC373RL1GOSCT-ND; Supplier 3: Newark; Supplier Part Number 3: 85W2275; Supplier 4: Newark; Supplier Part Number 4: 71J3396; Supplier 5: Mouser; Supplier Part Number 5: 863-BC373RL1G; Packing: Tape and Reel; Polarity: NPN; RoHS: TRUE; Mounting Technology: Through Hole; ComponentLink1Description: Manufacturer URL; ComponentLink1URL: http://www.onsemi.com/; ComponentLink2Description: Datasheet; ComponentLink2URL: http://www.onsemi.cn/pub_link/Collateral/BC372-D.PDF; ComponentLink3Description: Package Specification; ComponentLink3URL: http://www.onsemi.com/pub_link/Collateral/MAC97-D.PDF
footprint ONSC-TO-92-3-29-11_AM_BL (TO, 3-Leads, Body Dia 4.7mm, Pitch 2.6mm)
pins: 1 E, 2 B, 3 C

## BC517
designator Q?
Darlington Transistor, NPN Silicon, 3-Pin TO-92, Bulk Box; Manufacturer: On Semiconductor; PartNumber: BC517; IC Continuous (A): 1; DatasheetVersion: Rev. 5; PackageVersion: Rev. AM; PackageReference: TO-92-3-29-11_AM_SL; PackageDescription: 3-Pin Transistor Outline, Body 4.825 x 3.685 mm, Pitch 1.27 mm; Supplier 1: Digi-Key; Supplier Part Number 1: BC517OS-ND; Packing: Bulk Box; Polarity: NPN; RoHS: FALSE; Mounting Technology: Through Hole; ComponentLink1Description: Manufacturer URL; ComponentLink1URL: http://www.onsemi.com/; ComponentLink2Description: Datasheet; ComponentLink2URL: http://www.onsemi.cn/pub_link/Collateral/BC517-D.PDF; ComponentLink3Description: Package Specification; ComponentLink3URL: http://www.onsemi.cn/pub_link/Collateral/2N6426-D.PDF
footprint ONSC-TO-92-3-29-11 (TO, 3-Leads, Body Dia 4.7mm, Pitch 1.27mm)
pins: 1 C, 2 B, 3 E

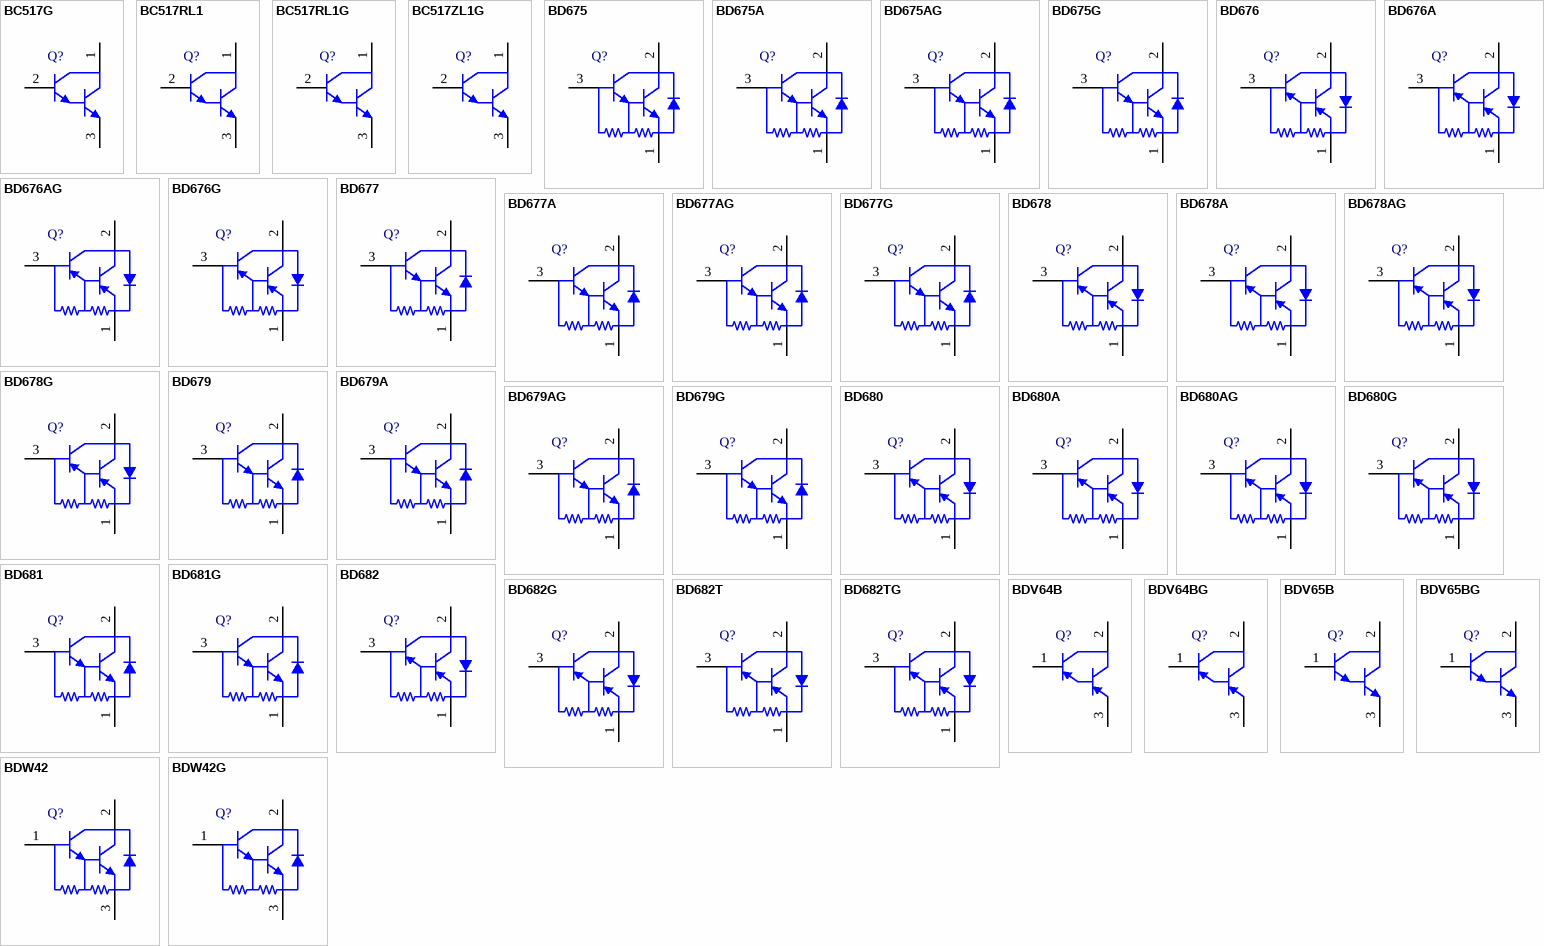
[diagram p1: symbols BC517G to BDW42G]

## BC517G
designator Q?
Darlington Transistor, NPN Silicon, 3-Pin TO-92, Pb-Free, Bulk Box; Manufacturer: On Semiconductor; PartNumber: BC517G; IC Continuous (A): 1; DatasheetVersion: Rev. 5; PackageVersion: Rev. AM; PackageReference: TO-92-3-29-11_AM_SL; PackageDescription: 3-Pin Transistor Outline, Body 4.825 x 3.685 mm, Pitch 1.27 mm; Supplier 1: Digi-Key; Supplier Part Number 1: BC517GOS-ND; Supplier 2: Newark; Supplier Part Number 2: 26K3424; Supplier 3: Mouser; Supplier Part Number 3: 863-BC517G; Packing: Bulk Box; Polarity: NPN; RoHS: TRUE; Mounting Technology: Through Hole; ComponentLink1Description: Manufacturer URL; ComponentLink1URL: http://www.onsemi.com/; ComponentLink2Description: Datasheet; ComponentLink2URL: http://www.onsemi.cn/pub_link/Collateral/BC517-D.PDF; ComponentLink3Description: Package Specification; ComponentLink3URL: http://www.onsemi.cn/pub_link/Collateral/2N6426-D.PDF
footprint ONSC-TO-92-3-29-11 (TO, 3-Leads, Body Dia 4.7mm, Pitch 1.27mm)
pins: 1 C, 2 B, 3 E

## BC517RL1
designator Q?
Darlington Transistor, NPN Silicon, 3-Pin TO-92, Tape and Reel; Manufacturer: On Semiconductor; PartNumber: BC517RL1; IC Continuous (A): 1; DatasheetVersion: Rev. 5; PackageVersion: Rev. AM; PackageReference: TO-92-3-29-11_AM_BL; PackageDescription: 3-Pin Transistor Outline, Body 4.825 x 3.685 mm, Pitch 1.27 mm; Supplier 1: Digi-Key; Supplier Part Number 1: BC517RL1-ND; Packing: Tape and Reel; Polarity: NPN; RoHS: FALSE; Mounting Technology: Through Hole; ComponentLink1Description: Manufacturer URL; ComponentLink1URL: http://www.onsemi.com/; ComponentLink2Description: Datasheet; ComponentLink2URL: http://www.onsemi.cn/pub_link/Collateral/BC517-D.PDF; ComponentLink3Description: Package Specification; ComponentLink3URL: http://www.onsemi.com/pub_link/Collateral/MAC97-D.PDF
footprint ONSC-TO-92-3-29-11_AM_BL (TO, 3-Leads, Body Dia 4.7mm, Pitch 2.6mm)
pins: 1 C, 2 B, 3 E

## BC517RL1G
designator Q?
Darlington Transistor, NPN Silicon, 3-Pin TO-92, Pb-Free, Tape and Reel; Manufacturer: On Semiconductor; PartNumber: BC517RL1G; IC Continuous (A): 1; DatasheetVersion: Rev. 5; PackageVersion: Rev. AM; PackageReference: TO-92-3-29-11_AM_BL; PackageDescription: 3-Pin Transistor Outline, Body 4.825 x 3.685 mm, Pitch 1.27 mm; Supplier 1: Digi-Key; Supplier Part Number 1: BC517RL1GOSTR-ND; Supplier 2: Digi-Key; Supplier Part Number 2: BC517RL1GOSCT-ND; Supplier 3: Farnell; Supplier Part Number 3: 2317851; Supplier 4: Farnell; Supplier Part Number 4: 2317546; Supplier 5: Newark; Supplier Part Number 5: 26K3425; Supplier 6: Mouser; Supplier Part Number 6: 863-BC517RL1G; Packing: Tape and Reel; Polarity: NPN; RoHS: TRUE; Mounting Technology: Through Hole; ComponentLink1Description: Manufacturer URL; ComponentLink1URL: http://www.onsemi.com/; ComponentLink2Description: Datasheet; ComponentLink2URL: http://www.onsemi.cn/pub_link/Collateral/BC517-D.PDF; ComponentLink3Description: Package Specification; ComponentLink3URL: http://www.onsemi.com/pub_link/Collateral/MAC97-D.PDF
footprint ONSC-TO-92-3-29-11_AM_BL (TO, 3-Leads, Body Dia 4.7mm, Pitch 2.6mm)
pins: 1 C, 2 B, 3 E

## BC517ZL1G
designator Q?
Darlington Transistor, NPN Silicon, 3-Pin TO-92, Pb-Free, Ammo Box; Manufacturer: On Semiconductor; PartNumber: BC517ZL1G; IC Continuous (A): 1; DatasheetVersion: Rev. 5; PackageVersion: Rev. AM; PackageReference: TO-92-3-29-11_AM_BL; PackageDescription: 3-Pin Transistor Outline, Body 4.825 x 3.685 mm, Pitch 1.27 mm; Supplier 1: Digi-Key; Supplier Part Number 1: BC517ZL1G-ND; Supplier 2: Mouser; Supplier Part Number 2: 863-BC517ZL1G; Packing: Ammo Box; Polarity: NPN; RoHS: TRUE; Mounting Technology: Through Hole; ComponentLink1Description: Manufacturer URL; ComponentLink1URL: http://www.onsemi.com/; ComponentLink2Description: Datasheet; ComponentLink2URL: http://www.onsemi.cn/pub_link/Collateral/BC517-D.PDF; ComponentLink3Description: Package Specification; ComponentLink3URL: http://www.onsemi.com/pub_link/Collateral/MAC97-D.PDF
footprint ONSC-TO-92-3-29-11_AM_BL (TO, 3-Leads, Body Dia 4.7mm, Pitch 2.6mm)
pins: 1 C, 2 B, 3 E

## BD675
designator Q?
Plastic Medium-Power Silicon NPN Darlington, 3-Pin TO-225, Bulk Box; Manufacturer: On Semiconductor; PartNumber: BD675; IC Continuous (A): 4; DatasheetVersion: Rev. 15; PackageVersion: Rev. AC, 12/2013; PackageReference: TO-225-3-77-09; PackageDescription: 3-Pin Flange Mount, Vertical Straight Lead, Body 7.6 x 2.7 mm, Pitch 2.29 mm; Supplier 1: Digi-Key; Supplier Part Number 1: BD675-ND; Packing: Bulk Box; Polarity: NPN; RoHS: FALSE; Mounting Technology: Through Hole; ComponentLink1Description: Manufacturer URL; ComponentLink1URL: http://www.onsemi.com/; ComponentLink2Description: Datasheet; ComponentLink2URL: http://www.onsemi.cn/pub_link/Collateral/BD675-D.PDF; ComponentLink3Description: Package Specification; ComponentLink3URL: http://www.onsemi.com/pub_link/Collateral/77-09.PDF
footprint ONSC-TO-225-3-77-09 (FM, 3-Leads, Body 7.8x3mm, Pitch 2.29mm)
pins: 1 E, 2 C, 3 B

## BD675A
designator Q?
Plastic Medium-Power Silicon NPN Darlington, 3-Pin TO-225, Bulk Box; Manufacturer: On Semiconductor; PartNumber: BD675A; IC Continuous (A): 4; DatasheetVersion: Rev. 15; PackageVersion: Rev. AC, 12/2013; PackageReference: TO-225-3-77-09; PackageDescription: 3-Pin Flange Mount, Vertical Straight Lead, Body 7.6 x 2.7 mm, Pitch 2.29 mm; Supplier 1: Digi-Key; Supplier Part Number 1: BD675A-ND; Packing: Bulk Box; Polarity: NPN; RoHS: FALSE; Mounting Technology: Through Hole; ComponentLink1Description: Manufacturer URL; ComponentLink1URL: http://www.onsemi.com/; ComponentLink2Description: Datasheet; ComponentLink2URL: http://www.onsemi.cn/pub_link/Collateral/BD675-D.PDF; ComponentLink3Description: Package Specification; ComponentLink3URL: http://www.onsemi.com/pub_link/Collateral/77-09.PDF
footprint ONSC-TO-225-3-77-09 (FM, 3-Leads, Body 7.8x3mm, Pitch 2.29mm)
pins: 1 E, 2 C, 3 B

## BD675AG
designator Q?
Plastic Medium-Power Silicon NPN Darlington, 3-Pin TO-225, Pb-Free, Bulk Box; Manufacturer: On Semiconductor; PartNumber: BD675AG; IC Continuous (A): 4; DatasheetVersion: Rev. 15; PackageVersion: Rev. AC, 12/2013; PackageReference: TO-225-3-77-09; PackageDescription: 3-Pin Flange Mount, Vertical Straight Lead, Body 7.6 x 2.7 mm, Pitch 2.29 mm; Supplier 1: Digi-Key; Supplier Part Number 1: BD675AGOS-ND; Supplier 2: Newark; Supplier Part Number 2: 26K3516; Supplier 3: Mouser; Supplier Part Number 3: 863-BD675AG; Packing: Bulk Box; Polarity: NPN; RoHS: TRUE; Mounting Technology: Through Hole; ComponentLink1Description: Manufacturer URL; ComponentLink1URL: http://www.onsemi.com/; ComponentLink2Description: Datasheet; ComponentLink2URL: http://www.onsemi.cn/pub_link/Collateral/BD675-D.PDF; ComponentLink3Description: Package Specification; ComponentLink3URL: http://www.onsemi.com/pub_link/Collateral/77-09.PDF
footprint ONSC-TO-225-3-77-09 (FM, 3-Leads, Body 7.8x3mm, Pitch 2.29mm)
pins: 1 E, 2 C, 3 B

## BD675G
designator Q?
Plastic Medium-Power Silicon NPN Darlington, 3-Pin TO-225, Pb-Free, Bulk Box; Manufacturer: On Semiconductor; PartNumber: BD675G; IC Continuous (A): 4; DatasheetVersion: Rev. 15; PackageVersion: Rev. AC, 12/2013; PackageReference: TO-225-3-77-09; PackageDescription: 3-Pin Flange Mount, Vertical Straight Lead, Body 7.6 x 2.7 mm, Pitch 2.29 mm; Supplier 1: Digi-Key; Supplier Part Number 1: BD675GOS-ND; Supplier 2: Farnell; Supplier Part Number 2: 9557636; Supplier 3: Newark; Supplier Part Number 3: 26K3517; Supplier 4: Mouser; Supplier Part Number 4: 863-BD675G; Packing: Bulk Box; Polarity: NPN; RoHS: TRUE; Mounting Technology: Through Hole; ComponentLink1Description: Manufacturer URL; ComponentLink1URL: http://www.onsemi.com/; ComponentLink2Description: Datasheet; ComponentLink2URL: http://www.onsemi.cn/pub_link/Collateral/BD675-D.PDF; ComponentLink3Description: Package Specification; ComponentLink3URL: http://www.onsemi.com/pub_link/Collateral/77-09.PDF
footprint ONSC-TO-225-3-77-09 (FM, 3-Leads, Body 7.8x3mm, Pitch 2.29mm)
pins: 1 E, 2 C, 3 B

## BD676
designator Q?
Plastic Medium-Power Silicon PNP Darlington, 3-Pin TO-225, Bulk Box; Manufacturer: On Semiconductor; PartNumber: BD676; IC Continuous (A): 4; DatasheetVersion: Rev. 14; PackageVersion: Rev. AC, 12/2013; PackageReference: TO-225-3-77-09; PackageDescription: 3-Pin Flange Mount, Vertical Straight Lead, Body 7.6 x 2.7 mm, Pitch 2.29 mm; Supplier 1: Digi-Key; Supplier Part Number 1: BD676-ND; Packing: Bulk Box; Polarity: PNP; RoHS: FALSE; Mounting Technology: Through Hole; ComponentLink1Description: Manufacturer URL; ComponentLink1URL: http://www.onsemi.com/; ComponentLink2Description: Datasheet; ComponentLink2URL: http://www.onsemi.cn/pub_link/Collateral/BD676-D.PDF; ComponentLink3Description: Package Specification; ComponentLink3URL: http://www.onsemi.com/pub_link/Collateral/77-09.PDF
footprint ONSC-TO-225-3-77-09 (FM, 3-Leads, Body 7.8x3mm, Pitch 2.29mm)
pins: 1 E, 2 C, 3 B